# Altium footprint library Andy_Parts.PcbLib: 121 footprints (part 8 of 8)
Each footprint in its own frame and in the unit in brackets; x right, y up, seen from the top. Pads: shape width x height; smd on the part's side, far side on the other; paste and mask are expansions set on the pad; w line width, h text height; cw(c..) or ccw(c..) is an arc to the next point about the centre after c.
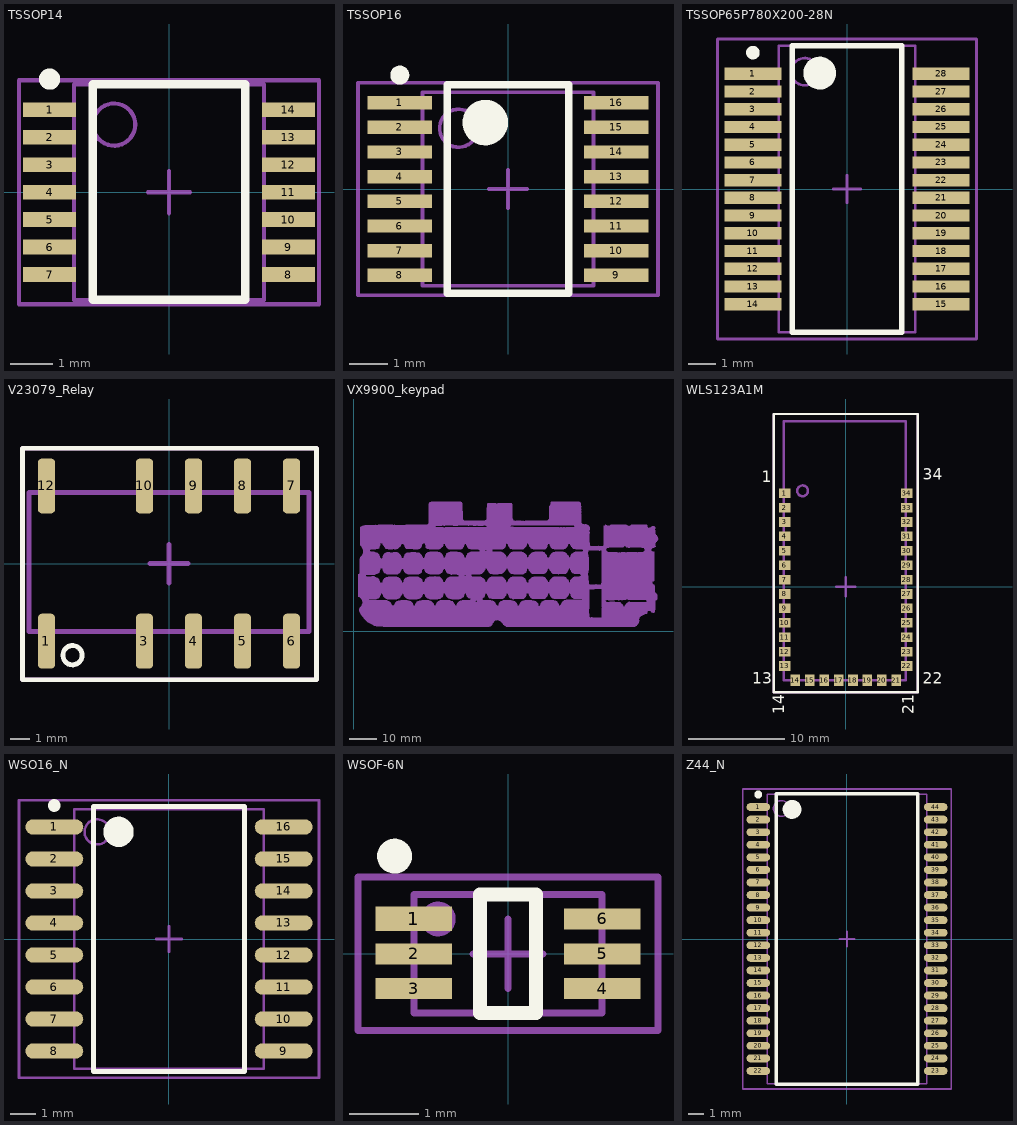
[diagram p7: the footprints below, top view; thin cyan lines are the x and y axes]

## TSSOP14 [mm] "TSSOP14, 4.4mmX5mm"
height 1.2
pads (14):
  rect 1.25x0.35 smd: 1(-2.825,1.95) 2(-2.825,1.3) 3(-2.825,0.65) 4(-2.825,0) 5(-2.825,-0.65) 6(-2.825,-1.3) 7(-2.825,-1.95) 8(2.825,-1.95) 9(2.825,-1.3) 10(2.825,-0.65) 11(2.825,0) 12(2.825,0.65) 13(2.825,1.3) 14(2.825,1.95)
Top Overlay:
  circle w0.25: c-2.825,2.675 r0.125
  lines w0.2: -1.8,-2.55 1.8,-2.55 1.8,2.55 -1.8,2.55 -1.8,-2.55
Mechanical 1:
  text ".Designator" at 0,0 h1.27
Mechanical 13:
  circle w0.1: c-1.3,1.6 r0.5
  lines w0.1: -2.25,-2.55 -2.25,2.55 2.25,2.55 2.25,-2.55 -2.25,-2.55
Mechanical 15:
  lines w0.1: -0.5,0 0.5,0 ; 0,-0.5 0,0.5 ; -3.55,-2.65 3.55,-2.65 3.55,2.65 -3.55,2.65 -3.55,-2.65
3D body: height 1.2, standoff 0.15, extent -2.25,-2.55 2.25,2.55
3D body: height 1.1, standoff 0, extent -3.2,-2.5 3.2,2.5

## TSSOP16 [mm] "SSOP, 16-Leads, Body 5.1x4.5mm (max), Pitch 0.65mm, IPC Medium Density"
height 1.2
pads (16):
  rect 1.7x0.35 smd: 1(-2.85,2.275) 2(-2.85,1.625) 3(-2.85,0.975) 4(-2.85,0.325) 5(-2.85,-0.325) 6(-2.85,-0.975) 7(-2.85,-1.625) 8(-2.85,-2.275) 9(2.85,-2.275) 10(2.85,-1.625) 11(2.85,-0.975) 12(2.85,-0.325) 13(2.85,0.325) 14(2.85,0.975) 15(2.85,1.625) 16(2.85,2.275)
Top Overlay:
  circle w0.25: c-2.85,3 r0.125
  circle w0.6: c-0.6,1.75 r0.3
  lines w0.2: -1.6,-2.75 -1.6,2.75 1.6,2.75 1.6,-2.75 -1.6,-2.75
Mechanical 1:
  text ".Designator" at 0.2,-2.3 h0.64
Mechanical 13:
  circle w0.1: c-1.3,1.6 r0.5
  lines w0.1: -2.25,-2.55 -2.25,2.55 2.25,2.55 2.25,-2.55 -2.25,-2.55
Mechanical 15:
  lines w0.1: -0.5,0 0.5,0 ; 0,-0.5 0,0.5 ; -3.95,-2.8 -3.95,2.8 3.95,2.8 3.95,-2.8 -3.95,-2.8
3D body: height 1.2, standoff 0.15, extent -2.25,-2.55 2.25,2.55

## TSSOP65P780X200-28N [mm] "SOP, 28-Leads, Body 10.5x5.0mm (max), Pitch 0.65mm, IPC Medium Density"
height 2
pads (28):
  rect 2.1x0.45 smd: 1(-3.45,4.225) 2(-3.45,3.575) 3(-3.45,2.925) 4(-3.45,2.275) 5(-3.45,1.625) 6(-3.45,0.975) 7(-3.45,0.325) 8(-3.45,-0.325) 9(-3.45,-0.975) 10(-3.45,-1.625) 11(-3.45,-2.275) 12(-3.45,-2.925) 13(-3.45,-3.575) 14(-3.45,-4.225) 15(3.45,-4.225) 16(3.45,-3.575) 17(3.45,-2.925) 18(3.45,-2.275) 19(3.45,-1.625) 20(3.45,-0.975) 21(3.45,-0.325) 22(3.45,0.325) 23(3.45,0.975) 24(3.45,1.625) 25(3.45,2.275) 26(3.45,2.925) 27(3.45,3.575) 28(3.45,4.225)
Top Overlay:
  circle w0.25: c-3.45,5 r0.125
  circle w0.6: c-1,4.25 r0.3
  lines w0.2: -2,-5.25 -2,5.25 2,5.25 2,-5.25 -2,-5.25
Mechanical 13:
  circle w0.1: c-1.55,4.3 r0.5
  lines w0.1: -2.5,-5.25 -2.5,5.25 2.5,5.25 2.5,-5.25 -2.5,-5.25
Mechanical 15:
  lines w0.1: -0.5,0 0.5,0 ; 0,-0.5 0,0.5 ; -4.75,-5.5 -4.75,5.5 4.75,5.5 4.75,-5.5 -4.75,-5.5
3D body: height 2, standoff 0.05, extent -2.5,-5.25 2.5,5.25

## V23079_Relay [mm] "Tyco V23079 relay footprint, long-leads"
height 10.389
pads (10):
  rrect50% 0.9x2.85 smd: 1(-6.35,-4.022) 3(-1.27,-4.022) 4(1.27,-4.022) 5(3.81,-4.022) 6(6.35,-4.022) 7(6.35,4.023) 8(3.81,4.023) 9(1.27,4.023) 10(-1.27,4.023) 12(-6.35,4.023)
Top Overlay:
  circle w0.254: c-5,-4.75 r0.5
  lines w0.254: -7.6,-6.023 7.65,-6.023 7.65,-2.022 7.65,5.978 -6.85,5.978 -7.6,5.978 -7.6,-6.023
Mechanical 1:
  text ".Designator" at -2.159,-0.104 h0.64
Mechanical 13:
  lines w0.254: -7.25,-3.522 7.25,-3.522 7.25,3.678 -7.25,3.678 -7.25,-3.522
Mechanical 15:
  lines w0.254: -1,0 0,0 ; 0,-1 0,0 ; 0,1 0,0 ; 1,0 0,0 ; -7.6,-6.023 -7.6,5.978 -6.85,5.978 7.65,5.978 7.65,-2.022 7.65,-6.023 -7.6,-6.023
3D body: height 10.4, standoff 0, extent -7.25,-3.522 7.25,3.678

## VX9900_keypad [mm] "VX9900 Keypad overlay mechanicals"
Mechanical 15:
  drawing of 3031 lines, arcs and shapes, not listed

## WLS123A1M [mm] "SeeedStudio WLS123A1M Bluetooth serial module footprint"
height 2.2
pads (34):
  rect 1.2x1 smd: 1(-6.35,9.75) 2(-6.35,8.25) 3(-6.35,6.75) 4(-6.35,5.25) 5(-6.35,3.75) 6(-6.35,2.25) 7(-6.35,0.75) 8(-6.35,-0.75) 9(-6.35,-2.25) 10(-6.35,-3.75) 11(-6.35,-5.25) 12(-6.35,-6.75) 13(-6.35,-8.25) 22(6.35,-8.25) 23(6.35,-6.75) 24(6.35,-5.25) 25(6.35,-3.75) 26(6.35,-2.25) 27(6.35,-0.75) 28(6.35,0.75) 29(6.35,2.25) 30(6.35,3.75) 31(6.35,5.25) 32(6.35,6.75) 33(6.35,8.25) 34(6.35,9.75)
  rect 1x1.2 smd: 14(-5.25,-9.75) 15(-3.75,-9.75) 16(-2.25,-9.75) 17(-0.75,-9.75) 18(0.75,-9.75) 19(2.25,-9.75) 20(3.75,-9.75) 21(5.25,-9.75)
Top Overlay:
  lines w0.254: -7.5,-11 -7.5,18 7.5,18 7.5,-11 -7.5,-11
  text "34" at 8,10.75 h2
  text "22" at 8,-10.5 h2
  text "21" at 7.5,-13.25 h2
  text "14" at -6,-13.25 h2
  text "13" at -9.75,-10.5 h2
  text "1" at -8.75,10.5 h2
Mechanical 1:
  text ".Designator" at -2.3,-0.7 h3.17
Mechanical 13:
  circle w0.254: c-4.5,10 r0.559
  lines w0.254: -6.45,-9.75 6.25,-9.75 6.25,17.25 -6.45,17.25 -6.45,-9.75
Mechanical 15:
  lines w0.254: -1,0 0,0 ; 0,-1 0,0 ; 0,1 0,0 ; 1,0 0,0 ; -7.5,-11 7.5,-11 7.5,18 -7.5,18 -7.5,-11
3D body: height 1.6, standoff 0, extent -6.45,-9.75 6.25,17.25
3D body: height 1.7, standoff 1.6, extent -5.25,10.95 4.75,16.75
3D body: height 1.7, standoff 0, extent 5.35,9.25 6.45,10.25
3D body: height 1.7, standoff 0, extent 5.35,7.75 6.45,8.75
3D body: height 1.7, standoff 0, extent 5.35,6.25 6.45,7.25
3D body: height 1.7, standoff 0, extent 5.35,4.75 6.45,5.75
3D body: height 1.7, standoff 0, extent 5.35,3.25 6.45,4.25
3D body: height 1.7, standoff 0, extent 5.35,1.75 6.45,2.75
3D body: height 1.7, standoff 0, extent 5.35,0.25 6.45,1.25
3D body: height 1.7, standoff 0, extent 5.35,-1.25 6.45,-0.25
3D body: height 1.7, standoff 0, extent 5.35,-2.75 6.45,-1.75
3D body: height 1.7, standoff 0, extent 5.35,-4.25 6.45,-3.25
3D body: height 1.7, standoff 0, extent 5.35,-5.75 6.45,-4.75
3D body: height 1.7, standoff 0, extent 5.35,-7.25 6.45,-6.25
3D body: height 1.7, standoff 0, extent 3.25,-9.95 4.25,-8.85
3D body: height 1.7, standoff 0, extent 1.75,-9.95 2.75,-8.85
3D body: height 1.7, standoff 0, extent 0.25,-9.95 1.25,-8.85
3D body: height 1.7, standoff 0, extent -1.25,-9.95 -0.25,-8.85
3D body: height 1.7, standoff 0, extent -2.75,-9.95 -1.75,-8.85
3D body: height 1.7, standoff 0, extent -4.25,-9.95 -3.25,-8.85
3D body: height 1.7, standoff 0, extent -6.65,-7.25 -5.55,-6.25
3D body: height 1.7, standoff 0, extent -6.65,-5.75 -5.55,-4.75
3D body: height 1.7, standoff 0, extent -6.65,-4.25 -5.55,-3.25
3D body: height 1.7, standoff 0, extent -6.65,-2.75 -5.55,-1.75
3D body: height 1.7, standoff 0, extent -6.65,-1.25 -5.55,-0.25
3D body: height 1.7, standoff 0, extent -6.65,0.25 -5.55,1.25
3D body: height 1.7, standoff 0, extent -6.65,1.75 -5.55,2.75
3D body: height 1.7, standoff 0, extent -6.65,3.25 -5.55,4.25
3D body: height 1.7, standoff 0, extent -6.65,4.75 -5.55,5.75
3D body: height 1.7, standoff 0, extent -6.65,6.25 -5.55,7.25
3D body: height 1.7, standoff 0, extent -6.65,7.75 -5.55,8.75
3D body: height 1.7, standoff 0, extent -6.65,9.25 -5.55,10.25
3D body: height 1.7, standoff 0, extent -6.65,-8.75 -5.65,-7.75
3D body: height 1.7, standoff 0, extent -5.75,-9.95 -4.75,-9.05
3D body: height 1.7, standoff 0, extent 4.75,-9.95 5.75,-9.05
3D body: height 1.7, standoff 0, extent 5.65,-8.75 6.65,-7.75
3D body: height 2.2, standoff 1.6, extent -2.35,-8.25 4.55,-3.25
3D body: height 2.2, standoff 1.6, extent -2.75,-2.25 4.55,4.75
3D body: height 2, standoff 1.6, extent -4.85,1.95 -3.35,5.85

## WSO16_N [mm] "16-Pin Small Outline Integrated Circuit 1.27 mm Pitch, IPC Medium Density"
height 2.65
pads (16):
  oval 2.3x0.6 smd: 1(-4.55,4.445) 2(-4.55,3.175) 3(-4.55,1.905) 4(-4.55,0.635) 5(-4.55,-0.635) 6(-4.55,-1.905) 7(-4.55,-3.175) 8(-4.55,-4.445) 9(4.55,-4.445) 10(4.55,-3.175) 11(4.55,-1.905) 12(4.55,-0.635) 13(4.55,0.635) 14(4.55,1.905) 15(4.55,3.175) 16(4.55,4.445)
Top Overlay:
  circle w0.6: c-2,4.25 r0.3
  circle w0.25: c-4.55,5.295 r0.125
  lines w0.2: -3,-5.25 3,-5.25 3,5.25 -3,5.25 -3,-5.25
Mechanical 13:
  circle w0.1: c-2.85,4.25 r0.5
  lines w0.1: -3.75,-5.15 3.75,-5.15 3.75,5.15 -3.75,5.15 -3.75,-5.15
Mechanical 15:
  lines w0.1: -0.5,0 0.5,0 ; 0,-0.5 0,0.5 ; -5.95,-5.5 5.95,-5.5 5.95,5.5 -5.95,5.5 -5.95,-5.5
3D body: height 2.65, standoff 0, extent -3.75,-5.15 3.75,5.15

## WSOF-6N [mm] "TSSOP, 6-Leads, Body 1.7x2.7mm (max), Pitch 0.50mm, IPC Medium Density"
height 0.75
pads (6):
  rect 1.1x0.35 smd: 1(-1.35,0.5)
  rect 1.1x0.3 smd: 2(-1.35,0) 3(-1.35,-0.5) 4(1.35,-0.5) 5(1.35,0) 6(1.35,0.5)
Top Overlay:
  circle w0.25: c-1.625,1.4 r0.125
  lines w0.2: -0.4,-0.85 0.4,-0.85 0.4,0.85 -0.4,0.85 -0.4,-0.85
Mechanical 13:
  circle w0.1: c-1,0.5 r0.2
  lines w0.1: -1.35,-0.85 1.35,-0.85 1.35,0.85 -1.35,0.85 -1.35,-0.85
Mechanical 15:
  lines w0.1: -0.5,0 0.5,0 ; 0,-0.5 0,0.5 ; -2.15,-1.1 2.15,-1.1 2.15,1.1 -2.15,1.1 -2.15,-1.1
3D body: height 0.75, standoff 0.15, extent -1.35,-0.85 1.35,0.85

## Z44_N [mm] "44-Pin Small Outline Package 0.8 mm Pitch, IPC Medium Density"
height 1.2
pads (44):
  oval 1.5x0.5 smd: 1(-5.65,8.4) 2(-5.65,7.6) 3(-5.65,6.8) 4(-5.65,6) 5(-5.65,5.2) 6(-5.65,4.4) 7(-5.65,3.6) 8(-5.65,2.8) 9(-5.65,2) 10(-5.65,1.2) 11(-5.65,0.4) 12(-5.65,-0.4) 13(-5.65,-1.2) 14(-5.65,-2) 15(-5.65,-2.8) 16(-5.65,-3.6) 17(-5.65,-4.4) 18(-5.65,-5.2) 19(-5.65,-6) 20(-5.65,-6.8) 21(-5.65,-7.6) 22(-5.65,-8.4) 23(5.65,-8.4) 24(5.65,-7.6) 25(5.65,-6.8) 26(5.65,-6) 27(5.65,-5.2) 28(5.65,-4.4) 29(5.65,-3.6) 30(5.65,-2.8) 31(5.65,-2) 32(5.65,-1.2) 33(5.65,-0.4) 34(5.65,0.4) 35(5.65,1.2) 36(5.65,2) 37(5.65,2.8) 38(5.65,3.6) 39(5.65,4.4) 40(5.65,5.2) 41(5.65,6) 42(5.65,6.8) 43(5.65,7.6) 44(5.65,8.4)
Top Overlay:
  circle w0.6: c-3.5,8.25 r0.3
  circle w0.25: c-5.65,9.2 r0.125
  lines w0.2: -4.5,-9.25 4.5,-9.25 4.5,9.25 -4.5,9.25 -4.5,-9.25
Mechanical 13:
  circle w0.1: c-4.18,8.31 r0.5
  lines w0.1: -5.08,-9.21 5.08,-9.21 5.08,9.21 -5.08,9.21 -5.08,-9.21
Mechanical 15:
  lines w0.1: -0.5,0 0.5,0 ; 0,-0.5 0,0.5 ; -6.65,-9.55 6.65,-9.55 6.65,9.55 -6.65,9.55 -6.65,-9.55
3D body: height 1.2, standoff 0, extent -5.08,-9.21 5.08,9.21